# EAGLE library part TBD62083A (library we-chip)
Toshiba TBD62083 8-Bit DMOS Transistor Array (Low Side) with clamp diodes Vmax 50 V Imax 500 mA/ch Rds 2 Ohm
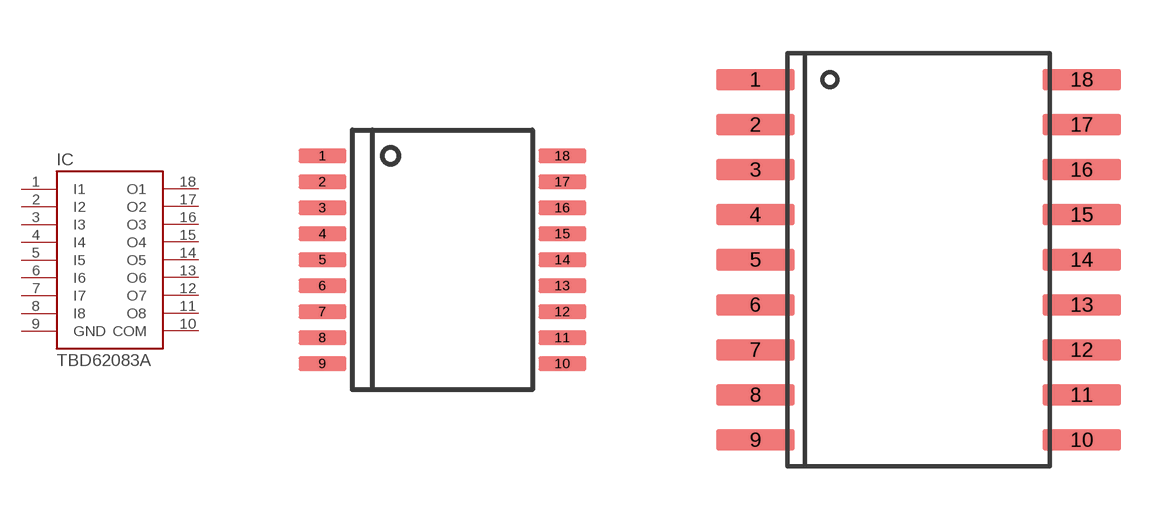
[diagram p32: symbol with the pads of TSSOP18; footprints TSSOP18, SO18W]

Designator prefix IC

## TBD62083A-FNG (DIGIKEY: TBD62083AFNGELDKR-ND)  [TSSOP18]
1  I1  in
2  I2  in
3  I3  in
4  I4  in
5  I5  in
6  I6  in
7  I7  in
8  I8  in
9  GND  pwr
10  COM  pas
11  O8  oc
12  O7  oc
13  O6  oc
14  O5  oc
15  O4  oc
16  O3  oc
17  O2  oc
18  O1  oc

## TBD62083A-FWG (DIGIKEY: TBD62083AFWGELDKR-ND)  [SO18W]
Pads as for TSSOP18

## Footprint TSSOP18 (pad centres in mm)
smd 1.2 x 0.35: 1 -3,2.6; 2 -3,1.95; 3 -3,1.3; 4 -3,0.65; 5 -3,0; 6 -3,-0.65; 7 -3,-1.3; 8 -3,-1.95; 9 -3,-2.6; 10 3,-2.6; 11 3,-1.95; 12 3,-1.3; 13 3,-0.65; 14 3,0; 15 3,0.65; 16 3,1.3; 17 3,1.95; 18 3,2.6

## Footprint SO18W (pad centres in mm)
smd 2.2 x 0.6: 1 -4.6,5.08; 2 -4.6,3.81; 3 -4.6,2.54; 4 -4.6,1.27; 5 -4.6,0; 6 -4.6,-1.27; 7 -4.6,-2.54; 8 -4.6,-3.81; 9 -4.6,-5.08; 10 4.6,-5.08; 11 4.6,-3.81; 12 4.6,-2.54; 13 4.6,-1.27; 14 4.6,0; 15 4.6,1.27; 16 4.6,2.54; 17 4.6,3.81; 18 4.6,5.08